# Altium footprint library 2021-03-04_13-28-26.PcbLib: 1 footprints
Each footprint in its own frame and in the unit in brackets; x right, y up, seen from the top. Pads: shape width x height; smd on the part's side, far side on the other; paste and mask are expansions set on the pad; w line width, h text height; cw(c..) or ccw(c..) is an arc to the next point about the centre after c.
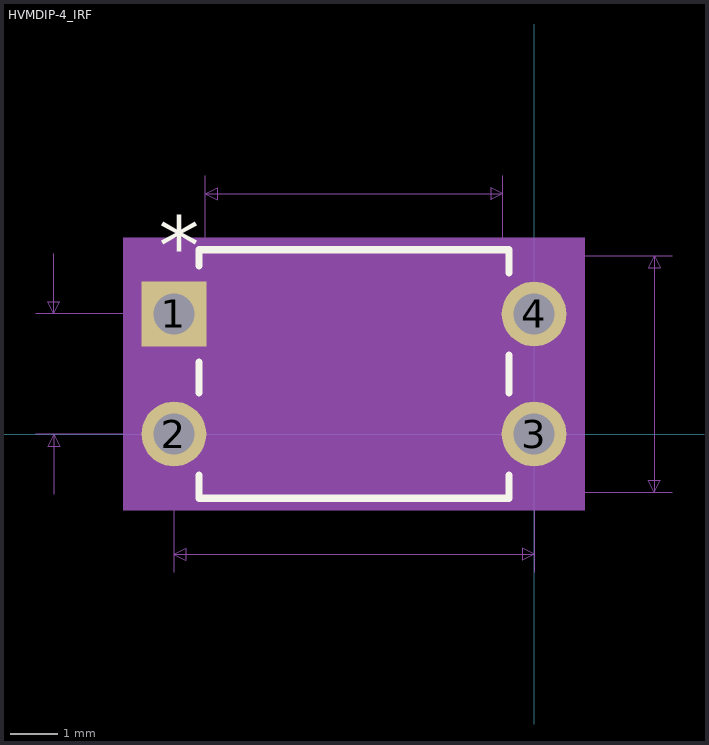
[diagram p0: the footprint, top view; thin cyan lines are the x and y axes]

## HVMDIP-4_IRF [mil]
pads (4):
  rect 54x54 hole 34: 1(-300,100)
  round 54 hole 34: 2(-300,0) 3(0,0) 4(0,100)
Top Overlay:
  lines w6: -279,-34.16 -279,-53.5 -21,-53.5 -21,-34.16 ; -279,34.16 -279,59.9 ; -279,140.1 -279,153.5 -21,153.5 -21,134.16 ; -21,34.16 -21,65.84
  text "*" at -312.5,132 h50
Mechanical 5:
  region: 42,-63.5 -342,-63.5 -342,163.5 42,163.5
Mechanical 7:
  lines w1: -415,0 -300,0 -300,-115 ; -415,100 -300,100 ; -400,-50 -400,0 ; -400,150 -400,100 ; -274,0 -274,215 ; -150,-48.5 115,-48.5 ; -150,148.5 115,148.5 ; -26,0 -26,215 ; 0,-115 0,0 ; -400,0 -405,-10 -395,-10 -400,0 ; -400,100 -405,110 -395,110 -400,100 ; -300,-100 0,-100 ; -300,-100 -290,-95 -290,-105 -300,-100 ; -274,200 -26,200 ; -274,200 -264,205 -264,195 -274,200 ; -26,200 -36,205 -36,195 -26,200 ; 0,-100 -10,-95 -10,-105 0,-100 ; 100,-48.5 100,148.5 ; 100,-48.5 95,-38.5 105,-38.5 100,-48.5 ; 100,148.5 95,138.5 105,138.5 100,148.5
  text "Default Padstyle: EX54Y54D34P" at -512.5,-277 h50
  text "Pin 1 Padstyle: SX54Y54D34P" at -487.5,-377 h50
  text "Alt 1 Padstyle: OX60Y90D30P" at -487.5,-427 h50
  text "Alt 2 Padstyle: OX90Y60D30P" at -487.5,-477 h50
  text "0.1in/2.54mm" at -570,37.5 h25
  text "0.3in/7.62mm" at -225,-145 h25
  text "0.248in/6.299mm" at -243.75,220 h25
  text "0.197in/5.004mm" at 120,37.5 h25
Mechanical 13:
  lines w0: -162,148.5 ccw(c-150,148.5) -138,148.5
  lines w1: -317,-17 -317,17 -274,17 -274,-17 -317,-17 ; -317,83 -317,117 -274,117 -274,83 -317,83 ; -274,-48.5 -26,-48.5 -26,148.5 -274,148.5 -274,-48.5 ; -26,-17 -26,17 17,17 17,-17 -26,-17 ; -26,83 -26,117 17,117 17,83 -26,83
  text "*" at -276.5,75 h50
Mechanical 15:
  region: -16,-10 37,-10 37,110 -16,110 -16,158.5 -284,158.5 -284,110 -337,110 -337,-10 -284,-10 -284,-58.5 -16,-58.5
  lines w6: -337,-10 -337,110 -284,110 -284,158.5 -16,158.5 -16,110 37,110 37,-10 -16,-10 -16,-58.5 -284,-58.5 -284,-10 -337,-10
3D body: height 10, standoff 0, extent 0,0 10,10